# EAGLE library part TRR2A05S-D (library Radicon)
TTI TRR Series relay
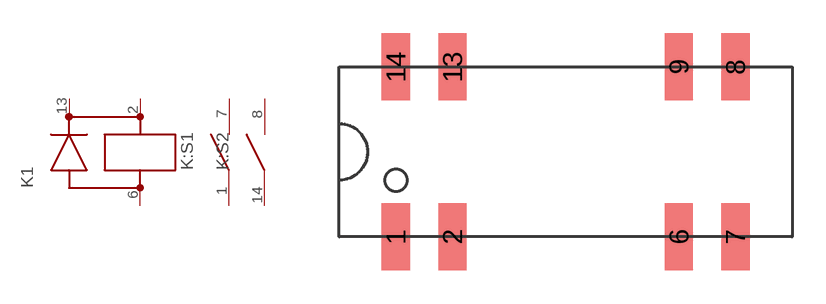
[diagram p25: symbol with the pads of TRR2A05S; footprint TRR2A05S]

Designator prefix K; gates 1=TRR2A05S-D :S1=TRR2A05S-D_K :S2=TRR2A05S-D_K

## TRR2A05S-D  [TRR2A05S]
1  :S1:P$1
2  1:V+
6  1:V-
7  :S1:P$2
8  :S2:P$2
13  1:V+
14  :S2:P$1

## Footprint TRR2A05S (pad centres in mm)
smd 1.27 x 3: 1 -7.62,-3.81; 2 -5.08,-3.81; 6 5.08,-3.81; 7 7.62,-3.81; 8 7.62,3.81; 9 5.08,3.81; 13 -5.08,3.81; 14 -7.62,3.81